# EAGLE library part BQ24083 (library packages(ti))
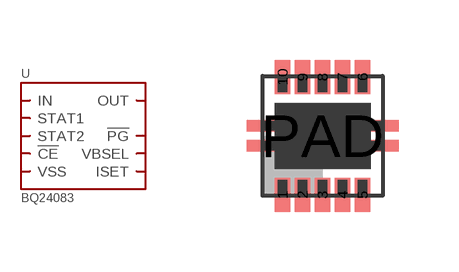
[diagram p6: symbol with the pads of DRC; footprint DRC]

Designator prefix U

## BQ24083.DRC  [DRC]
1  IN
3  STAT1
4  STAT2
5  VSS
6  ISET
7  VBSEL
8  !PG!
9  !CE!
10  OUT
PAD  VSS

## Footprint DRC (pad centres in mm)
smd 0.38 x 0.85: 1 -1,-1.475; 2 -0.5,-1.475; 3 0,-1.475; 4 0.5,-1.475; 5 1,-1.475; 6 1,1.475; 7 0.5,1.475; 8 0,1.475; 9 -0.5,1.475; 10 -1,1.475
smd 2.4 x 1.65: PAD 0,0